# EAGLE library part TM017FDH03 (library X893)
http://tianma-europe.com/downloads/tm017fdh03_f_v2.2.pdf
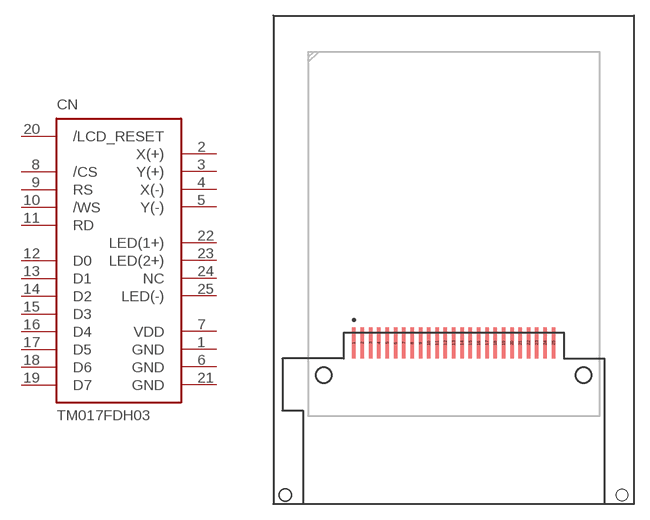
[diagram p140: symbol with the pads of TM017FDH03; footprint TM017FDH03]

Designator prefix CN

## TM017FDH03  [TM017FDH03]
1  GND  pwr
2  X(+)  pas
3  Y(+)  pas
4  X(-)  pas
5  Y(-)  pas
6  GND  pwr
7  VDD  pas
8  /CS  in
9  RS  in
10  /WS  in
11  RD  in
12  D0  in
13  D1  in
14  D2  in
15  D3  in
16  D4  in
17  D5  in
18  D6  in
19  D7  in
20  /LCD_RESET  in
21  GND  pwr
22  LED(1+)  pas
23  LED(2+)  pas
24  NC  nc
25  LED(-)  pas

## Footprint TM017FDH03 (pad centres in mm)
smd 0.45 x 3: 1 -9.6,-2; 2 -8.8,-2; 3 -8,-2; 4 -7.2,-2; 5 -6.4,-2; 6 -5.6,-2; 7 -4.8,-2; 8 -4,-2; 9 -3.2,-2; 10 -2.4,-2; 11 -1.6,-2; 12 -0.8,-2; 13 0,-2; 14 0.8,-2; 15 1.6,-2; 16 2.4,-2; 17 3.2,-2; 18 4,-2; 19 4.8,-2; 20 5.6,-2; 21 6.4,-2; 22 7.2,-2; 23 8,-2; 24 8.8,-2; 25 9.6,-2
hole 1.1 at 16.2,-16.65
hole 1.6 at -12.49,-5.1
hole 1.6 at 12.51,-5.1